# Altium footprint library Footprints.PcbLib: 21 footprints (part 1 of 2)
Each footprint in its own frame and in the unit in brackets; x right, y up, seen from the top. Pads: shape width x height; smd on the part's side, far side on the other; paste and mask are expansions set on the pad; w line width, h text height; cw(c..) or ccw(c..) is an arc to the next point about the centre after c.
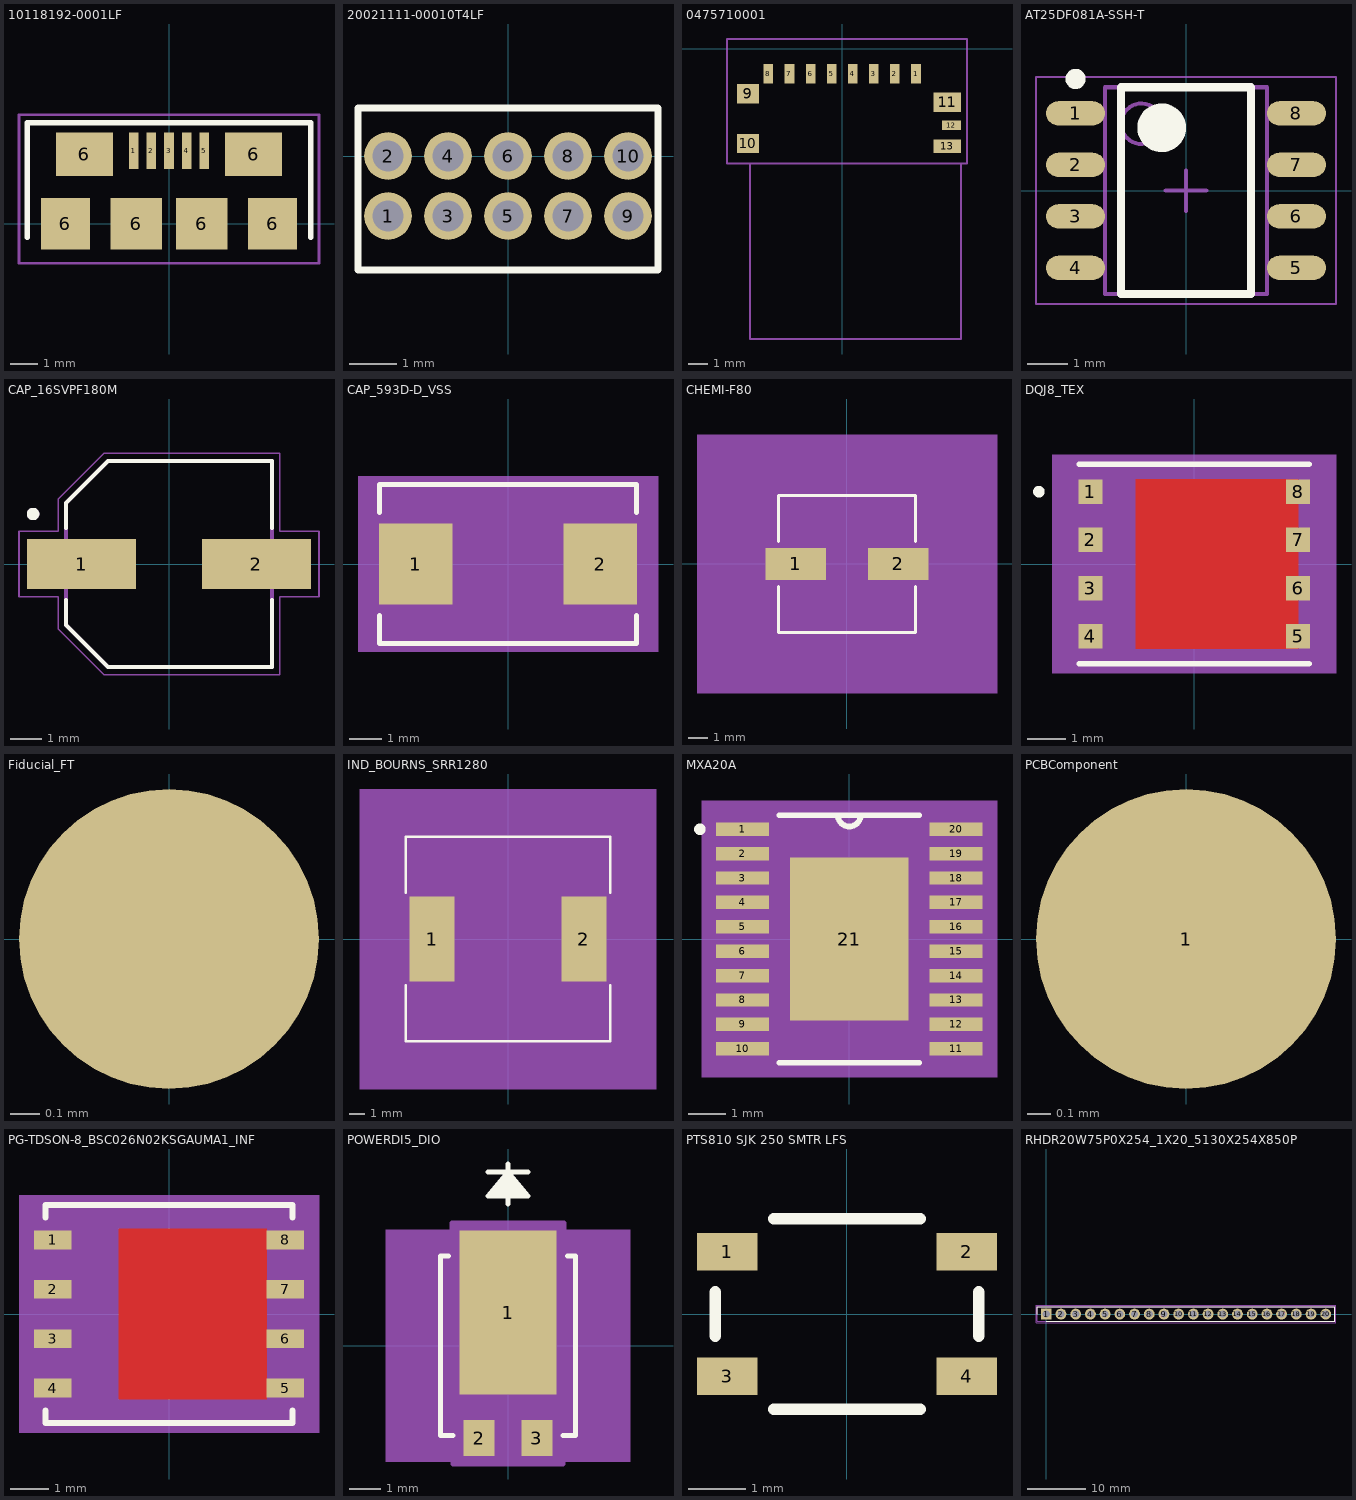
[diagram p0: the footprints below, top view; thin cyan lines are the x and y axes]

## 10118192-0001LF [mm]
pads (11):
  rect 0.35x1.35 smd: 1(-1.3,2.675) 2(-0.65,2.675) 3(0,2.675) 4(0.65,2.675) 5(1.3,2.675)
  rect 1.8x1.9 smd: 6(-3.8,0) 6(3.8,0)
  rect 2.1x1.6 smd: 6(-3.1,2.55) 6(3.1,2.55)
  rect 1.9x1.9 smd: 6(-1.2,0) 6(1.2,0)
Top Overlay:
  lines w0.203: -5.2,-0.5 -5.2,3.7 5.2,3.7 5.2,-0.5
Mechanical 4:
  lines w0.102: -5.5,-1.45 -5.5,4 5.5,4 5.5,-1.45 5,-1.45 -5.5,-1.45
  text "BOARD EDGE" at -2.65,-2.1 h0.5
3D body "10118192C.stp": height 2.79, standoff -0.22, extent -3.956,-2.761 3.956,2.9

## 20021111-00010T4LF [mm] "CONN HEADER 10POS UNSHD VERT T/H"
pads (10):
  round 1.006 hole 0.65: 1(-2.54,-1.27) 2(-2.54,0) 3(-1.27,-1.27) 4(-1.27,0) 5(0,-1.27) 6(0,0) 7(1.27,-1.27) 8(1.27,0) 9(2.54,-1.27) 10(2.54,0)
Top Overlay:
  lines w0.152: -3.175,-2.413 -3.175,1.016 3.175,1.016 3.175,-2.413 -3.175,-2.413
3D body "10posheader.STEP": height 5.5, standoff -2.35, extent -3.175,-2.335 3.175,1.065

## 0475710001 [mm]
height 2.54
pads (13):
  rect 0.5x1 smd: 1(3.85,-1.31) 2(2.75,-1.31) 3(1.65,-1.31) 4(0.55,-1.31) 5(-0.55,-1.31) 6(-1.65,-1.31) 7(-2.75,-1.31) 8(-3.85,-1.31)
  rect 1.15x1 smd: 9(-4.925,-2.36) 10(-4.925,-4.95)
  rect 1.45x1 smd: 11(5.475,-2.8)
  rect 1x0.5 smd: 12(5.7,-4)
  rect 1.45x0.7 smd: 13(5.475,-5.1)
Mechanical 4:
  lines w0.102: -4.8,-6 -4.8,-15.15 6.2,-15.15 6.2,-6 ; -6,-6 -6,-5.5 -6,0.5 6.5,0.5 6.5,-6 -6,-6
  text "card position" at -3.2,-14.8 h0.7
3D body "475710001.stp": height 2.28, standoff -0.01, extent -5.375,-5.375 6.025,0.075

## AT25DF081A-SSH-T [mm] "IC FLASH 8MBIT 100MHZ 8SOIC"
height 1.75
pads (8):
  oval 1.45x0.6 smd: 1(-2.725,1.905) 2(-2.725,0.635) 3(-2.725,-0.635) 4(-2.725,-1.905) 5(2.725,-1.905) 6(2.725,-0.635) 7(2.725,0.635) 8(2.725,1.905)
Top Overlay:
  circle w0.25: c-2.725,2.755 r0.125
  circle w0.6: c-0.6,1.55 r0.3
  lines w0.2: -1.6,-2.55 -1.6,2.55 1.6,2.55 1.6,-2.55 -1.6,-2.55
Mechanical 13:
  circle w0.1: c-1.1,1.65 r0.5
  lines w0.1: -2,-2.55 -2,2.55 2,2.55 2,-2.55 -2,-2.55
Mechanical 15:
  lines w0.05: -3.7,-2.8 -3.7,2.8 3.7,2.8 3.7,-2.8 -3.7,-2.8
  lines w0.1: -0.5,0 0.5,0 ; 0,-0.5 0,0.5
3D body "SOIC127P600X175-8N.step": height 1.75, standoff 0, extent -2.997,-2.55 2.997,2.55

## CAP_16SVPF180M [mm]
pads (2):
  rect 3.5x1.6 smd: 1(-2.8,0) 2(2.8,0)
Top Overlay:
  circle w0.2: c-4.35,1.6 r0.1
  lines w0.127: -3.3,-1.15 -3.3,-1.95 -1.95,-3.3 3.3,-3.3 3.3,-1.15 ; -3.3,1.15 -3.3,1.95 -1.95,3.3 3.3,3.3 3.3,1.15
Mechanical 13:
  circle w0.2: c-4.35,1.6 r0.1
  lines w0.127: -3.3,-1.95 -1.95,-3.3 3.3,-3.3 3.3,3.3 -1.95,3.3 -3.3,1.95 -3.3,-1.95
Mechanical 15:
  lines w0.05: -4.8,-1.05 -3.55,-1.05 -3.55,-2.075 -2.075,-3.55 3.55,-3.55 3.55,-1.05 4.8,-1.05 4.8,1.05 3.55,1.05 3.55,3.55 -2.075,3.55 -3.55,2.075 -3.55,1.05 -4.8,1.05 -4.8,-1.05
3D body "16SVPF180M.STEP": height 5.91, standoff 0.01, extent -3.65,-3.3 3.65,3.3

## CAP_593D-D_VSS [mil]
pads (2):
  rect 89x98 smd paste+0 mask+0: 1(-111,0) 2(111,0)
Top Overlay:
  lines w6: -154.5,-62.1 -154.5,-95.5 154.5,-95.5 154.5,-62.1 ; -154.5,62.1 -154.5,95.5 154.5,95.5 154.5,62.1
Mechanical 5:
  region: 180.5,-105.5 -180.5,-105.5 -180.5,105.5 180.5,105.5
Mechanical 13:
  lines w1: -149.5,-90.5 -149.5,90.5 149.5,90.5 149.5,-90.5 -149.5,-90.5
Mechanical 15:
  region: -159.5,-59 -165.5,-59 -165.5,59 -159.5,59 -159.5,100.5 159.5,100.5 159.5,59 165.5,59 165.5,-59 159.5,-59 159.5,-100.5 -159.5,-100.5
  lines w6: -165.5,-59 -159.5,-59 -159.5,-100.5 159.5,-100.5 159.5,-59 165.5,-59 165.5,59 159.5,59 159.5,100.5 -159.5,100.5 -159.5,59 -165.5,59 -165.5,-59
3D body "CAP_593D-D_VSS.step": height 124.02, standoff 0, extent -149.49,-90.51 149.49,90.51

## CHEMI-F80 [mil]
pads (2):
  rect 120x63 smd paste+0 mask+0: 1(-101.5,0) 2(101.5,0)
Top Overlay:
  lines w6: -135,-44.6 -135,-135 135,-135 135,-44.6 ; -135,44.6 -135,135 135,135 135,44.6
Mechanical 5:
  region: 296.5,-255 -296.5,-255 -296.5,255 296.5,255
Mechanical 13:
  lines w1: -130,-65 -65,-130 ; -130,65 -65,130 ; -130,-130 -130,130 130,130 130,-130 -130,-130
Mechanical 15:
  region: -140,-41.5 -171.5,-41.5 -171.5,41.5 -140,41.5 -140,140 140,140 140,41.5 171.5,41.5 171.5,-41.5 140,-41.5 140,-140 -140,-140
  lines w6: -171.5,-41.5 -140,-41.5 -140,-140 140,-140 140,-41.5 171.5,-41.5 171.5,41.5 140,41.5 140,140 -140,140 -140,41.5 -171.5,41.5 -171.5,-41.5
3D body "CHEMI-F80.step": height 305.12, standoff 0, extent -141.5,-130 141.5,130

## DQJ8_TEX [mm]
pads (8):
  rect 0.63x0.65 smd paste-0.1: 1(-2.735,1.905) 2(-2.735,0.635) 3(-2.735,-0.635) 4(-2.735,-1.905) 5(2.735,-1.905) 6(2.735,-0.635) 7(2.735,0.635) 8(2.735,1.905)
Top Layer:
  region: 2.745,0 2.745,-2.23 -1.545,-2.23 -1.545,0
  region: 2.745,0 2.745,2.23 -1.545,2.23 -1.545,0
Top Overlay:
  circle w0.152: c-4.091,1.905 r0.076
  lines w0.152: -3.027,-2.627 3.027,-2.627 ; -3.027,2.627 3.027,2.627
Top Paste:
  region: -0.18,-1.88 -0.18,-0.31 -1.415,-0.31 -1.415,-1.88
  region: -0.18,1.88 -0.18,0.31 -1.415,0.31 -1.415,1.88
  region: 0.32,1.88 0.32,0.31 1.905,0.31 1.905,1.88
  region: 0.32,-1.88 0.32,-0.31 1.905,-0.31 1.905,-1.88
Top Solder:
  region: 2.745,0 2.745,-2.23 -1.545,-2.23 -1.545,0
  region: 2.745,0 2.745,2.23 -1.545,2.23 -1.545,0
  region: 3.12,2.3 2.35,2.3 2.35,1.51 3.12,1.51
  region: 3.12,1.03 2.35,1.03 2.35,0.24 3.12,0.24
  region: 3.12,-0.24 2.35,-0.24 2.35,-1.03 3.12,-1.03
  region: 3.12,-1.51 2.35,-1.51 2.35,-2.3 3.12,-2.3
  region: -2.35,-1.51 -3.12,-1.51 -3.12,-2.3 -2.35,-2.3
  region: -2.35,-0.24 -3.12,-0.24 -3.12,-1.03 -2.35,-1.03
  region: -2.35,1.03 -3.12,1.03 -3.12,0.24 -2.35,0.24
  region: -2.35,2.3 -3.12,2.3 -3.12,1.51 -2.35,1.51
Mechanical 5:
  region: 3.736,-2.881 -3.736,-2.881 -3.736,2.881 3.736,2.881
Mechanical 13:
  circle w0: c-2.725,1.905 r0.076
  lines w0: -0.305,2.5 ccw(c0,2.5) 0.305,2.5
  lines w0.025: -2.9,-2.5 -2.9,2.5 2.9,2.5 2.9,-2.5 -2.9,-2.5
Mechanical 15:
  region: -3.154,-2.591 -3.609,-2.591 -3.609,2.591 -3.154,2.591 -3.154,2.754 3.154,2.754 3.154,2.591 3.609,2.591 3.609,-2.591 3.154,-2.591 3.154,-2.754 -3.154,-2.754
  lines w0.152: -3.609,-2.591 -3.154,-2.591 -3.154,-2.754 3.154,-2.754 3.154,-2.591 3.609,-2.591 3.609,2.591 3.154,2.591 3.154,2.754 -3.154,2.754 -3.154,2.591 -3.609,2.591 -3.609,-2.591
3D body "CSD16342Q5A.STEP": height 1.11, standoff 0.01, extent -3,-2.45 3,2.45

## Fiducial_FT [mil]
pads (1):
  round 40 smd paste-30 mask+30: ""(0,0)

## IND_BOURNS_SRR1280 [mil]
pads (2):
  rect 114x213 smd paste+0 mask+0: 1(-191,0) 2(191,0)
Top Overlay:
  lines w6: -257,-116.02 -257,-257 257,-257 257,-116.02 ; -257,116.02 -257,257 257,257 257,116.02
Mechanical 5:
  region: 373,-377 -373,-377 -373,377 373,377
Mechanical 13:
  lines w1: -252,-252 -252,252 252,252 252,-252 -252,-252
Mechanical 15:
  region: -262,-116.5 -262,116.5 -262,262 262,262 262,116.5 262,-116.5 262,-262 -262,-262
  lines w6: -262,-262 262,-262 262,-116.5 262,116.5 262,262 -262,262 -262,116.5 -262,-116.5 -262,-262
3D body "IND_BOURNS_SRR1280.step": height 315, standoff 0, extent -252.01,-252.09 252.01,252.09

## MXA20A [mil]
pads (21):
  rect 56x14 smd: 1(-112,115.16) 2(-112,89.57) 3(-112,63.98) 4(-112,38.39) 5(-112,12.8) 6(-112,-12.8) 7(-112,-38.39) 8(-112,-63.98) 9(-112,-89.57) 10(-112,-115.16) 11(112,-115.16) 12(112,-89.57) 13(112,-63.98) 14(112,-38.39) 15(112,-12.8) 16(112,12.8) 17(112,38.39) 18(112,63.98) 19(112,89.57) 20(112,115.16)
  rect 124x171 smd: 21(0,0)
Top Overlay:
  circle w6: c-156.8,115.16 r3
  lines w6: -73.51,-130 73.51,-130 ; -73.51,130 73.51,130 ; -12,130 ccw(c0,130) 12,130
Mechanical 5:
  region: 155,-145 -155,-145 -155,145 155,145
Mechanical 13:
  circle w0: c-156.8,115.16 r3
  lines w0: -12,130 ccw(c0,130) 12,130
  lines w1: -126,-121.16 -126,-109.16 -88.5,-109.16 -88.5,-121.16 -126,-121.16 ; -126,-95.57 -126,-83.57 -88.5,-83.57 -88.5,-95.57 -126,-95.57 ; -126,-69.98 -126,-57.98 -88.5,-57.98 -88.5,-69.98 -126,-69.98 ; -126,-44.39 -126,-32.39 -88.5,-32.39 -88.5,-44.39 -126,-44.39 ; -126,-18.8 -126,-6.8 -88.5,-6.8 -88.5,-18.8 -126,-18.8 ; -126,6.8 -126,18.8 -88.5,18.8 -88.5,6.8 -126,6.8 ; -126,32.39 -126,44.39 -88.5,44.39 -88.5,32.39 -126,32.39 ; -126,57.98 -126,69.98 -88.5,69.98 -88.5,57.98 -126,57.98 ; -126,83.57 -126,95.57 -88.5,95.57 -88.5,83.57 -126,83.57 ; -126,109.16 -126,121.16 -88.5,121.16 -88.5,109.16 -126,109.16 ; -88.5,-130 88.5,-130 88.5,130 -88.5,130 -88.5,-130 ; 88.5,-121.16 88.5,-109.16 126,-109.16 126,-121.16 88.5,-121.16 ; 88.5,-95.57 88.5,-83.57 126,-83.57 126,-95.57 88.5,-95.57 ; 88.5,-69.98 88.5,-57.98 126,-57.98 126,-69.98 88.5,-69.98 ; 88.5,-44.39 88.5,-32.39 126,-32.39 126,-44.39 88.5,-44.39 ; 88.5,-18.8 88.5,-6.8 126,-6.8 126,-18.8 88.5,-18.8 ; 88.5,6.8 88.5,18.8 126,18.8 126,6.8 88.5,6.8 ; 88.5,32.39 88.5,44.39 126,44.39 126,32.39 88.5,32.39 ; 88.5,57.98 88.5,69.98 126,69.98 126,57.98 88.5,57.98 ; 88.5,83.57 88.5,95.57 126,95.57 126,83.57 88.5,83.57 ; 88.5,109.16 88.5,121.16 126,121.16 126,109.16 88.5,109.16
Mechanical 15:
  region: 150,-140 -150,-140 -150,140 150,140
  lines w6: -150,-140 -150,140 150,140 150,-140 -150,-140
3D body "MXA20A.step": height 43.11, standoff 0, extent -125.98,-130 125.98,130

## PCBComponent [mm]
pads (1):
  round 1.27 smd mask+0: 1(0,0)
3D body: height 0, standoff -0.02, extent -0.63,-0.634 0.635,0.634

## PG-TDSON-8_BSC026N02KSGAUMA1_INF [mil]
pads (8):
  rect 38x19 smd paste+0 mask+0: 1(-118,75) 2(-118,25) 3(-118,-25) 4(-118,-75) 5(118,-75) 6(118,-25) 7(118,25) 8(118,75)
Top Layer:
  region: -51,86.5 99,86.5 99,-86.5 -51,-86.5
Top Overlay:
  lines w6: -125,-97.6 -125,-110.5 125,-110.5 125,-97.6 ; -125,97.6 -125,110.5 125,110.5 125,97.6
Top Paste:
  region: 95.06,-32.77 52.94,-32.77 52.94,-82.56 95.06,-82.56
  region: 95.06,24.9 52.94,24.9 52.94,-24.9 95.06,-24.9
  region: 95.06,82.56 52.94,82.56 52.94,32.77 95.06,32.77
  region: 45.06,-32.77 2.94,-32.77 2.94,-82.56 45.06,-82.56
  region: 45.06,24.9 2.94,24.9 2.94,-24.9 45.06,-24.9
  region: 45.06,82.56 2.94,82.56 2.94,32.77 45.06,32.77
  region: -4.94,-32.77 -47.06,-32.77 -47.06,-82.56 -4.94,-82.56
  region: -4.94,24.9 -47.06,24.9 -47.06,-24.9 -4.94,-24.9
  region: -4.94,82.56 -47.06,82.56 -47.06,32.77 -4.94,32.77
Mechanical 5:
  region: 152,-120.5 -152,-120.5 -152,120.5 152,120.5
Mechanical 13:
  lines w0: -12,105.5 ccw(c0,105.5) 12,105.5
  lines w1: -120,-105.5 -120,105.5 120,105.5 120,-105.5 -120,-105.5
Mechanical 15:
  region: -130,-102 -147,-102 -147,102 -130,102 -130,115.5 130,115.5 130,102 147,102 147,-102 130,-102 130,-115.5 -130,-115.5
  lines w6: -147,-102 -130,-102 -130,-115.5 130,-115.5 130,-102 147,-102 147,102 130,102 130,115.5 -130,115.5 -130,102 -147,102 -147,-102
3D body "PG-TDSON-8_BSC026N02KSGAUMA1_INF.step": height 43.11, standoff 0, extent -125,-105.51 125,105.51

## POWERDI5_DIO [mil]
pads (3):
  rect 122x205 smd paste+0 mask+0: 1(0,41.5)
  rect 39x45 smd paste+0 mask+0: 2(-36.22,-115.5) 3(36.22,-115.5)
Top Overlay:
  lines w6: -74.1,112.5 -84.5,112.5 -84.5,-112.5 -68.82,-112.5 ; -25,217.5 25,217.5 ; -20,187.5 0,217.5 ; -15,187.5 0,217.5 ; -10,187.5 0,217.5 ; -5,187.5 0,217.5 ; 0,177.5 0,227.5 ; 5,187.5 0,217.5 ; 10,187.5 0,217.5 ; 15,187.5 0,217.5 ; 20,187.5 0,217.5 ; 68.82,-112.5 84.5,-112.5 84.5,112.5 74.1,112.5 ; 0,217.5 -25,187.5 25,187.5 0,217.5
Mechanical 5:
  region: 153,-145 -153,-145 -153,145 153,145
Mechanical 13:
  lines w1: -25,217.5 25,217.5 ; -20,187.5 0,217.5 ; -15,187.5 0,217.5 ; -10,187.5 0,217.5 ; -5,187.5 0,217.5 ; 0,177.5 0,227.5 ; 5,187.5 0,217.5 ; 10,187.5 0,217.5 ; 15,187.5 0,217.5 ; 20,187.5 0,217.5 ; 0,217.5 -25,187.5 25,187.5 0,217.5 ; -79.5,-107.5 -79.5,107.5 79.5,107.5 79.5,-107.5 -79.5,-107.5
Mechanical 15:
  region: 79.5,-107.5 -79.5,-107.5 -79.5,107.5 79.5,107.5
  region: -68.72,-117.5 -89.5,-117.5 -89.5,117.5 -70,117.5 -70,154 70,154 70,117.5 89.5,117.5 89.5,-117.5 68.72,-117.5 68.72,-148 -68.72,-148
  lines w6: -89.5,-117.5 -68.72,-117.5 -68.72,-148 68.72,-148 68.72,-117.5 89.5,-117.5 89.5,117.5 70,117.5 70,154 -70,154 -70,117.5 -89.5,117.5 -89.5,-117.5
3D body "POWERDI5_DIO.step": height 47.09, standoff 0, extent -79.49,-130 79.49,130

## PTS810 SJK 250 SMTR LFS [mm] "SWITCH TACTILE SPST-NO 0.05A 16V"
pads (4):
  rect 1.05x0.65 smd: 1(-2.075,1.075) 2(2.075,1.075) 3(-2.075,-1.075) 4(2.075,-1.075)
Top Overlay:
  lines w0.203: -2.286,-0.381 -2.286,0.381 ; -1.27,-1.651 1.27,-1.651 ; -1.27,1.651 1.27,1.651 ; 2.286,-0.381 2.286,0.381
3D body "PTS810 CK Switch.STEP": height 2.5, standoff 0, extent -2.3,-1.6 2.3,1.6

## RHDR20W75P0X254_1X20_5130X254X850P [mm]
pads (20):
  rect 1.875x1.875 hole 1.25: 1(0,0)
  round 1.875 hole 1.25: 2(2.54,0) 3(5.08,0) 4(7.62,0) 5(10.16,0) 6(12.7,0) 7(15.24,0) 8(17.78,0) 9(20.32,0) 10(22.86,0) 11(25.4,0) 12(27.94,0) 13(30.48,0) 14(33.02,0) 15(35.56,0) 16(38.1,0) 17(40.64,0) 18(43.18,0) 19(45.72,0) 20(48.26,0)
Top Overlay:
  lines w0.2: -1.52,0 -1.52,1.305 49.78,1.305 49.78,-1.27 0,-1.27
Mechanical 13:
  lines w0.1: -1.52,-1.27 -1.52,1.27 49.78,1.27 49.78,-1.27 -1.52,-1.27
Mechanical 15:
  lines w0.05: -1.77,-1.52 -1.77,1.555 50.03,1.555 50.03,-1.52 -1.77,-1.52
3D body "PPTC201LFBN-RC.stp": height 8.5, standoff -3.2, extent -1.52,-1.27 49.78,1.27